# Altium footprint library AMP Footprints.PcbLib: 903 footprints (part 17 of 58)
Each footprint in its own frame and in the unit in brackets; x right, y up, seen from the top. Pads: shape width x height; smd on the part's side, far side on the other; paste and mask are expansions set on the pad; w line width, h text height; cw(c..) or ccw(c..) is an arc to the next point about the centre after c.
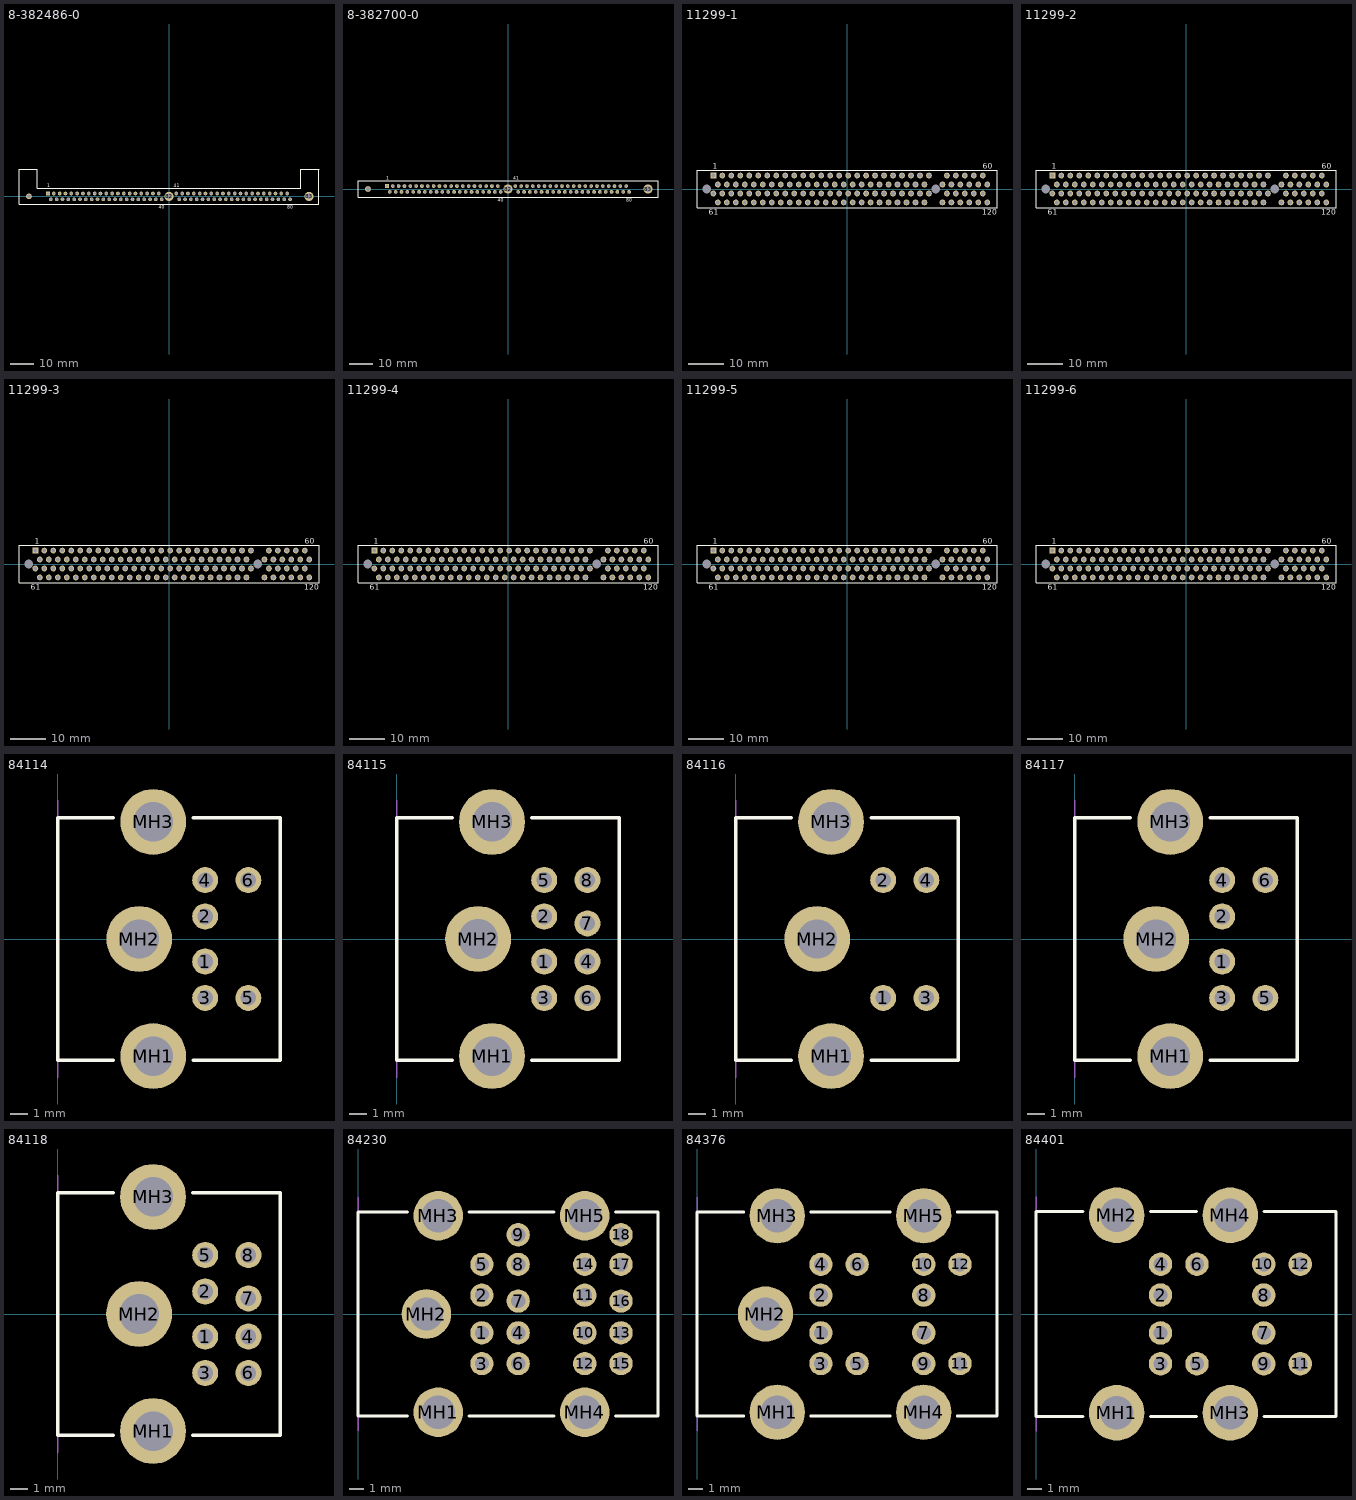
[diagram p16: the footprints below, top view; thin cyan lines are the x and y axes]

## 8-382486-0 [mm] "Connector; SIMM II; 80 Position; Right Angle"
height 11.56
pads (83):
  rect 1.6x1.6 hole 0.99: 1(-52.705,1.27)
  round 1.6 hole 0.99: 2(-51.435,-1.27) 3(-50.165,1.27) 4(-48.895,-1.27) 5(-47.625,1.27) 6(-46.355,-1.27) 7(-45.085,1.27) 8(-43.815,-1.27) 9(-42.545,1.27) 10(-41.275,-1.27) 11(-40.005,1.27) 12(-38.735,-1.27) 13(-37.465,1.27) 14(-36.195,-1.27) 15(-34.925,1.27) 16(-33.655,-1.27) 17(-32.385,1.27) 18(-31.115,-1.27) 19(-29.845,1.27) 20(-28.575,-1.27) 21(-27.305,1.27) 22(-26.035,-1.27) 23(-24.765,1.27) 24(-23.495,-1.27) 25(-22.225,1.27) 26(-20.955,-1.27) 27(-19.685,1.27) 28(-18.415,-1.27) 29(-17.145,1.27) 30(-15.875,-1.27) 31(-14.605,1.27) 32(-13.335,-1.27) 33(-12.065,1.27) 34(-10.795,-1.27) 35(-9.525,1.27) 36(-8.255,-1.27) 37(-6.985,1.27) 38(-5.715,-1.27) 39(-4.445,1.27) 40(-3.175,-1.27) 41(3.175,1.27) 42(4.445,-1.27) 43(5.715,1.27) 44(6.985,-1.27) 45(8.255,1.27) 46(9.525,-1.27) 47(10.795,1.27) 48(12.065,-1.27) 49(13.335,1.27) 50(14.605,-1.27) 51(15.875,1.27) 52(17.145,-1.27) 53(18.415,1.27) 54(19.685,-1.27) 55(20.955,1.27) 56(22.225,-1.27) 57(23.495,1.27) 58(24.765,-1.27) 59(26.035,1.27) 60(27.305,-1.27) 61(28.575,1.27) 62(29.845,-1.27) 63(31.115,1.27) 64(32.385,-1.27) 65(33.655,1.27) 66(34.925,-1.27) 67(36.195,1.27) 68(37.465,-1.27) 69(38.735,1.27) 70(40.005,-1.27) 71(41.275,1.27) 72(42.545,-1.27) 73(43.815,1.27) 74(45.085,-1.27) 75(46.355,1.27) 76(47.625,-1.27) 77(48.895,1.27) 78(50.165,-1.27) 79(51.435,1.27) 80(52.705,-1.27)
  round 2.48 hole 1.58: 81(-60.96,0)
  round 3.94 hole 2.44: 82(0,0) 83(60.96,0)
Top Overlay:
  lines w0.2: 57.265,3.5 -57.275,3.5 -57.275,11.92 -65.305,11.92 -65.305,-3.5 65.295,-3.5 65.295,11.92 ; 57.265,3.53 57.265,11.92 65.305,11.92
  text "1" at -52.955,3.975 h1.5
  text "40" at -4.425,-5.475 h1.5
  text "41" at 2.175,3.975 h1.5
  text "80" at 51.455,-5.475 h1.5

## 8-382700-0 [mm] "Connector; SIMM II; 80 Position; Vertical"
height 18.9
pads (83):
  rect 1.6x1.6 hole 0.99: 1(-52.705,1.27)
  round 1.6 hole 0.99: 2(-51.435,-1.27) 3(-50.165,1.27) 4(-48.895,-1.27) 5(-47.625,1.27) 6(-46.355,-1.27) 7(-45.085,1.27) 8(-43.815,-1.27) 9(-42.545,1.27) 10(-41.275,-1.27) 11(-40.005,1.27) 12(-38.735,-1.27) 13(-37.465,1.27) 14(-36.195,-1.27) 15(-34.925,1.27) 16(-33.655,-1.27) 17(-32.385,1.27) 18(-31.115,-1.27) 19(-29.845,1.27) 20(-28.575,-1.27) 21(-27.305,1.27) 22(-26.035,-1.27) 23(-24.765,1.27) 24(-23.495,-1.27) 25(-22.225,1.27) 26(-20.955,-1.27) 27(-19.685,1.27) 28(-18.415,-1.27) 29(-17.145,1.27) 30(-15.875,-1.27) 31(-14.605,1.27) 32(-13.335,-1.27) 33(-12.065,1.27) 34(-10.795,-1.27) 35(-9.525,1.27) 36(-8.255,-1.27) 37(-6.985,1.27) 38(-5.715,-1.27) 39(-4.445,1.27) 40(-3.175,-1.27) 41(3.175,1.27) 42(4.445,-1.27) 43(5.715,1.27) 44(6.985,-1.27) 45(8.255,1.27) 46(9.525,-1.27) 47(10.795,1.27) 48(12.065,-1.27) 49(13.335,1.27) 50(14.605,-1.27) 51(15.875,1.27) 52(17.145,-1.27) 53(18.415,1.27) 54(19.685,-1.27) 55(20.955,1.27) 56(22.225,-1.27) 57(23.495,1.27) 58(24.765,-1.27) 59(26.035,1.27) 60(27.305,-1.27) 61(28.575,1.27) 62(29.845,-1.27) 63(31.115,1.27) 64(32.385,-1.27) 65(33.655,1.27) 66(34.925,-1.27) 67(36.195,1.27) 68(37.465,-1.27) 69(38.735,1.27) 70(40.005,-1.27) 71(41.275,1.27) 72(42.545,-1.27) 73(43.815,1.27) 74(45.085,-1.27) 75(46.355,1.27) 76(47.625,-1.27) 77(48.895,1.27) 78(50.165,-1.27) 79(51.435,1.27) 80(52.705,-1.27)
  round 2.47 hole 1.57: 81(-60.96,0)
  round 3.94 hole 2.44: 82(0,0) 83(60.96,0)
Top Overlay:
  lines w0.2: -65.305,-3.5 65.295,-3.5 65.295,3.5 -65.305,3.5 -65.305,-3.5
  text "80" at 51.455,-5.475 h1.5
  text "41" at 2.175,3.975 h1.5
  text "40" at -4.425,-5.475 h1.5
  text "1" at -52.955,3.975 h1.5

## 11299-1 [mm] "Connector; Card Edge .050 Series PCI; 2x60 Position; 32-Bit Bus"
height 15.48
pads (122):
  rect 1.62x1.62 hole 1.02: 1(-37.782,3.81)
  round 1.62 hole 1.02: 2(-36.512,1.27) 3(-35.242,3.81) 4(-33.972,1.27) 5(-32.703,3.81) 6(-31.432,1.27) 7(-30.162,3.81) 8(-28.892,1.27) 9(-27.622,3.81) 10(-26.352,1.27) 11(-25.082,3.81) 12(-23.812,1.27) 13(-22.543,3.81) 14(-21.273,1.27) 15(-20.002,3.81) 16(-18.732,1.27) 17(-17.462,3.81) 18(-16.192,1.27) 19(-14.922,3.81) 20(-13.652,1.27) 21(-12.383,3.81) 22(-11.112,1.27) 23(-9.842,3.81) 24(-8.572,1.27) 25(-7.302,3.81) 26(-6.032,1.27) 27(-4.763,3.81) 28(-3.492,1.27) 29(-2.222,3.81) 30(-0.953,1.27) 31(0.318,3.81) 32(1.587,1.27) 33(2.857,3.81) 34(4.127,1.27) 35(5.397,3.81) 36(6.667,1.27) 37(7.938,3.81) 38(9.207,1.27) 39(10.477,3.81) 40(11.747,1.27) 41(13.018,3.81) 42(14.287,1.27) 43(15.557,3.81) 44(16.828,1.27) 45(18.098,3.81) 46(19.367,1.27) 47(20.637,3.81) 48(21.907,1.27) 49(23.177,3.81) 50(26.987,1.27) 51(28.258,3.81) 52(29.527,1.27) 53(30.797,3.81) 54(32.067,1.27) 55(33.337,3.81) 56(34.608,1.27) 57(35.877,3.81) 58(37.148,1.27) 59(38.417,3.81) 60(39.688,1.27) 61(-37.782,-1.27) 62(-36.512,-3.81) 63(-35.242,-1.27) 64(-33.972,-3.81) 65(-32.703,-1.27) 66(-31.432,-3.81) 67(-30.162,-1.27) 68(-28.892,-3.81) 69(-27.622,-1.27) 70(-26.352,-3.81) 71(-25.082,-1.27) 72(-23.812,-3.81) 73(-22.543,-1.27) 74(-21.273,-3.81) 75(-20.002,-1.27) 76(-18.732,-3.81) 77(-17.462,-1.27) 78(-16.192,-3.81) 79(-14.922,-1.27) 80(-13.652,-3.81) 81(-12.383,-1.27) 82(-11.112,-3.81) 83(-9.842,-1.27) 84(-8.572,-3.81) 85(-7.302,-1.27) 86(-6.032,-3.81) 87(-4.763,-1.27) 88(-3.492,-3.81) 89(-2.222,-1.27) 90(-0.953,-3.81) 91(0.318,-1.27) 92(1.587,-3.81) 93(2.857,-1.27) 94(4.127,-3.81) 95(5.397,-1.27) 96(6.667,-3.81) 97(7.938,-1.27) 98(9.207,-3.81) 99(10.477,-1.27) 100(11.747,-3.81) 101(13.018,-1.27) 102(14.287,-3.81) 103(15.557,-1.27) 104(16.828,-3.81) 105(18.098,-1.27) 106(19.367,-3.81) 107(20.637,-1.27) 108(21.907,-3.81) 109(23.177,-1.27) 110(26.987,-3.81) 111(28.258,-1.27) 112(29.527,-3.81) 113(30.797,-1.27) 114(32.067,-3.81) 115(33.337,-1.27) 116(34.608,-3.81) 117(35.877,-1.27) 118(37.148,-3.81) 119(38.417,-1.27) 120(39.688,-3.81)
  round 2.14 hole 2.44: 121(-39.688,0) 122(25.082,0)
Top Overlay:
  lines w0.2: -42.42,-5.26 -42.42,5.26 42.42,5.26 42.42,-5.26 -42.42,-5.26
  text "61" at -39.033,-7.235 h1.5
  text "1" at -38.032,5.735 h1.5
  text "60" at 38.437,5.735 h1.5
  text "120" at 38.188,-7.235 h1.5

## 11299-2 [mm] "Connector; Card Edge .050 Series PCI; 2x60 Position; 32-Bit Bus"
height 15.48
pads (122):
  rect 1.62x1.62 hole 1.02: 1(-37.782,3.81)
  round 1.62 hole 1.02: 2(-36.512,1.27) 3(-35.242,3.81) 4(-33.972,1.27) 5(-32.703,3.81) 6(-31.432,1.27) 7(-30.162,3.81) 8(-28.892,1.27) 9(-27.622,3.81) 10(-26.352,1.27) 11(-25.082,3.81) 12(-23.812,1.27) 13(-22.543,3.81) 14(-21.273,1.27) 15(-20.002,3.81) 16(-18.732,1.27) 17(-17.462,3.81) 18(-16.192,1.27) 19(-14.922,3.81) 20(-13.652,1.27) 21(-12.383,3.81) 22(-11.112,1.27) 23(-9.842,3.81) 24(-8.572,1.27) 25(-7.302,3.81) 26(-6.032,1.27) 27(-4.763,3.81) 28(-3.492,1.27) 29(-2.222,3.81) 30(-0.953,1.27) 31(0.318,3.81) 32(1.587,1.27) 33(2.857,3.81) 34(4.127,1.27) 35(5.397,3.81) 36(6.667,1.27) 37(7.938,3.81) 38(9.207,1.27) 39(10.477,3.81) 40(11.747,1.27) 41(13.018,3.81) 42(14.287,1.27) 43(15.557,3.81) 44(16.828,1.27) 45(18.098,3.81) 46(19.367,1.27) 47(20.637,3.81) 48(21.907,1.27) 49(23.177,3.81) 50(26.987,1.27) 51(28.258,3.81) 52(29.527,1.27) 53(30.797,3.81) 54(32.067,1.27) 55(33.337,3.81) 56(34.608,1.27) 57(35.877,3.81) 58(37.148,1.27) 59(38.417,3.81) 60(39.688,1.27) 61(-37.782,-1.27) 62(-36.512,-3.81) 63(-35.242,-1.27) 64(-33.972,-3.81) 65(-32.703,-1.27) 66(-31.432,-3.81) 67(-30.162,-1.27) 68(-28.892,-3.81) 69(-27.622,-1.27) 70(-26.352,-3.81) 71(-25.082,-1.27) 72(-23.812,-3.81) 73(-22.543,-1.27) 74(-21.273,-3.81) 75(-20.002,-1.27) 76(-18.732,-3.81) 77(-17.462,-1.27) 78(-16.192,-3.81) 79(-14.922,-1.27) 80(-13.652,-3.81) 81(-12.383,-1.27) 82(-11.112,-3.81) 83(-9.842,-1.27) 84(-8.572,-3.81) 85(-7.302,-1.27) 86(-6.032,-3.81) 87(-4.763,-1.27) 88(-3.492,-3.81) 89(-2.222,-1.27) 90(-0.953,-3.81) 91(0.318,-1.27) 92(1.587,-3.81) 93(2.857,-1.27) 94(4.127,-3.81) 95(5.397,-1.27) 96(6.667,-3.81) 97(7.938,-1.27) 98(9.207,-3.81) 99(10.477,-1.27) 100(11.747,-3.81) 101(13.018,-1.27) 102(14.287,-3.81) 103(15.557,-1.27) 104(16.828,-3.81) 105(18.098,-1.27) 106(19.367,-3.81) 107(20.637,-1.27) 108(21.907,-3.81) 109(23.177,-1.27) 110(26.987,-3.81) 111(28.258,-1.27) 112(29.527,-3.81) 113(30.797,-1.27) 114(32.067,-3.81) 115(33.337,-1.27) 116(34.608,-3.81) 117(35.877,-1.27) 118(37.148,-3.81) 119(38.417,-1.27) 120(39.688,-3.81)
  round 2.14 hole 2.44: 121(-39.688,0) 122(25.082,0)
Top Overlay:
  lines w0.2: -42.42,-5.26 -42.42,5.26 42.42,5.26 42.42,-5.26 -42.42,-5.26
  text "61" at -39.033,-7.235 h1.5
  text "1" at -38.032,5.735 h1.5
  text "60" at 38.437,5.735 h1.5
  text "120" at 38.188,-7.235 h1.5

## 11299-3 [mm] "Connector; Card Edge .050 Series PCI; 2x60 Position; 32-Bit Bus"
height 15.48
pads (122):
  rect 1.62x1.62 hole 1.02: 1(-37.782,3.81)
  round 1.62 hole 1.02: 2(-36.512,1.27) 3(-35.242,3.81) 4(-33.972,1.27) 5(-32.703,3.81) 6(-31.432,1.27) 7(-30.162,3.81) 8(-28.892,1.27) 9(-27.622,3.81) 10(-26.352,1.27) 11(-25.082,3.81) 12(-23.812,1.27) 13(-22.543,3.81) 14(-21.273,1.27) 15(-20.002,3.81) 16(-18.732,1.27) 17(-17.462,3.81) 18(-16.192,1.27) 19(-14.922,3.81) 20(-13.652,1.27) 21(-12.383,3.81) 22(-11.112,1.27) 23(-9.842,3.81) 24(-8.572,1.27) 25(-7.302,3.81) 26(-6.032,1.27) 27(-4.763,3.81) 28(-3.492,1.27) 29(-2.222,3.81) 30(-0.953,1.27) 31(0.318,3.81) 32(1.587,1.27) 33(2.857,3.81) 34(4.127,1.27) 35(5.397,3.81) 36(6.667,1.27) 37(7.938,3.81) 38(9.207,1.27) 39(10.477,3.81) 40(11.747,1.27) 41(13.018,3.81) 42(14.287,1.27) 43(15.557,3.81) 44(16.828,1.27) 45(18.098,3.81) 46(19.367,1.27) 47(20.637,3.81) 48(21.907,1.27) 49(23.177,3.81) 50(26.987,1.27) 51(28.258,3.81) 52(29.527,1.27) 53(30.797,3.81) 54(32.067,1.27) 55(33.337,3.81) 56(34.608,1.27) 57(35.877,3.81) 58(37.148,1.27) 59(38.417,3.81) 60(39.688,1.27) 61(-37.782,-1.27) 62(-36.512,-3.81) 63(-35.242,-1.27) 64(-33.972,-3.81) 65(-32.703,-1.27) 66(-31.432,-3.81) 67(-30.162,-1.27) 68(-28.892,-3.81) 69(-27.622,-1.27) 70(-26.352,-3.81) 71(-25.082,-1.27) 72(-23.812,-3.81) 73(-22.543,-1.27) 74(-21.273,-3.81) 75(-20.002,-1.27) 76(-18.732,-3.81) 77(-17.462,-1.27) 78(-16.192,-3.81) 79(-14.922,-1.27) 80(-13.652,-3.81) 81(-12.383,-1.27) 82(-11.112,-3.81) 83(-9.842,-1.27) 84(-8.572,-3.81) 85(-7.302,-1.27) 86(-6.032,-3.81) 87(-4.763,-1.27) 88(-3.492,-3.81) 89(-2.222,-1.27) 90(-0.953,-3.81) 91(0.318,-1.27) 92(1.587,-3.81) 93(2.857,-1.27) 94(4.127,-3.81) 95(5.397,-1.27) 96(6.667,-3.81) 97(7.938,-1.27) 98(9.207,-3.81) 99(10.477,-1.27) 100(11.747,-3.81) 101(13.018,-1.27) 102(14.287,-3.81) 103(15.557,-1.27) 104(16.828,-3.81) 105(18.098,-1.27) 106(19.367,-3.81) 107(20.637,-1.27) 108(21.907,-3.81) 109(23.177,-1.27) 110(26.987,-3.81) 111(28.258,-1.27) 112(29.527,-3.81) 113(30.797,-1.27) 114(32.067,-3.81) 115(33.337,-1.27) 116(34.608,-3.81) 117(35.877,-1.27) 118(37.148,-3.81) 119(38.417,-1.27) 120(39.688,-3.81)
  round 2.14 hole 2.44: 121(-39.688,0) 122(25.082,0)
Top Overlay:
  lines w0.2: -42.42,-5.26 -42.42,5.26 42.42,5.26 42.42,-5.26 -42.42,-5.26
  text "61" at -39.033,-7.235 h1.5
  text "1" at -38.032,5.735 h1.5
  text "60" at 38.437,5.735 h1.5
  text "120" at 38.188,-7.235 h1.5

## 11299-4 [mm] "Connector; Card Edge .050 Series PCI; 2x60 Position; 32-Bit Bus"
height 15.48
pads (122):
  rect 1.62x1.62 hole 1.02: 1(-37.782,3.81)
  round 1.62 hole 1.02: 2(-36.512,1.27) 3(-35.242,3.81) 4(-33.972,1.27) 5(-32.703,3.81) 6(-31.432,1.27) 7(-30.162,3.81) 8(-28.892,1.27) 9(-27.622,3.81) 10(-26.352,1.27) 11(-25.082,3.81) 12(-23.812,1.27) 13(-22.543,3.81) 14(-21.273,1.27) 15(-20.002,3.81) 16(-18.732,1.27) 17(-17.462,3.81) 18(-16.192,1.27) 19(-14.922,3.81) 20(-13.652,1.27) 21(-12.383,3.81) 22(-11.112,1.27) 23(-9.842,3.81) 24(-8.572,1.27) 25(-7.302,3.81) 26(-6.032,1.27) 27(-4.763,3.81) 28(-3.492,1.27) 29(-2.222,3.81) 30(-0.953,1.27) 31(0.318,3.81) 32(1.587,1.27) 33(2.857,3.81) 34(4.127,1.27) 35(5.397,3.81) 36(6.667,1.27) 37(7.938,3.81) 38(9.207,1.27) 39(10.477,3.81) 40(11.747,1.27) 41(13.018,3.81) 42(14.287,1.27) 43(15.557,3.81) 44(16.828,1.27) 45(18.098,3.81) 46(19.367,1.27) 47(20.637,3.81) 48(21.907,1.27) 49(23.177,3.81) 50(26.987,1.27) 51(28.258,3.81) 52(29.527,1.27) 53(30.797,3.81) 54(32.067,1.27) 55(33.337,3.81) 56(34.608,1.27) 57(35.877,3.81) 58(37.148,1.27) 59(38.417,3.81) 60(39.688,1.27) 61(-37.782,-1.27) 62(-36.512,-3.81) 63(-35.242,-1.27) 64(-33.972,-3.81) 65(-32.703,-1.27) 66(-31.432,-3.81) 67(-30.162,-1.27) 68(-28.892,-3.81) 69(-27.622,-1.27) 70(-26.352,-3.81) 71(-25.082,-1.27) 72(-23.812,-3.81) 73(-22.543,-1.27) 74(-21.273,-3.81) 75(-20.002,-1.27) 76(-18.732,-3.81) 77(-17.462,-1.27) 78(-16.192,-3.81) 79(-14.922,-1.27) 80(-13.652,-3.81) 81(-12.383,-1.27) 82(-11.112,-3.81) 83(-9.842,-1.27) 84(-8.572,-3.81) 85(-7.302,-1.27) 86(-6.032,-3.81) 87(-4.763,-1.27) 88(-3.492,-3.81) 89(-2.222,-1.27) 90(-0.953,-3.81) 91(0.318,-1.27) 92(1.587,-3.81) 93(2.857,-1.27) 94(4.127,-3.81) 95(5.397,-1.27) 96(6.667,-3.81) 97(7.938,-1.27) 98(9.207,-3.81) 99(10.477,-1.27) 100(11.747,-3.81) 101(13.018,-1.27) 102(14.287,-3.81) 103(15.557,-1.27) 104(16.828,-3.81) 105(18.098,-1.27) 106(19.367,-3.81) 107(20.637,-1.27) 108(21.907,-3.81) 109(23.177,-1.27) 110(26.987,-3.81) 111(28.258,-1.27) 112(29.527,-3.81) 113(30.797,-1.27) 114(32.067,-3.81) 115(33.337,-1.27) 116(34.608,-3.81) 117(35.877,-1.27) 118(37.148,-3.81) 119(38.417,-1.27) 120(39.688,-3.81)
  round 2.14 hole 2.44: 121(-39.688,0) 122(25.082,0)
Top Overlay:
  lines w0.2: -42.42,-5.26 -42.42,5.26 42.42,5.26 42.42,-5.26 -42.42,-5.26
  text "61" at -39.033,-7.235 h1.5
  text "1" at -38.032,5.735 h1.5
  text "60" at 38.437,5.735 h1.5
  text "120" at 38.188,-7.235 h1.5

## 11299-5 [mm] "Connector; Card Edge .050 Series PCI; 2x60 Position; 32-Bit Bus"
height 15.48
pads (122):
  rect 1.62x1.62 hole 1.02: 1(-37.782,3.81)
  round 1.62 hole 1.02: 2(-36.512,1.27) 3(-35.242,3.81) 4(-33.972,1.27) 5(-32.703,3.81) 6(-31.432,1.27) 7(-30.162,3.81) 8(-28.892,1.27) 9(-27.622,3.81) 10(-26.352,1.27) 11(-25.082,3.81) 12(-23.812,1.27) 13(-22.543,3.81) 14(-21.273,1.27) 15(-20.002,3.81) 16(-18.732,1.27) 17(-17.462,3.81) 18(-16.192,1.27) 19(-14.922,3.81) 20(-13.652,1.27) 21(-12.383,3.81) 22(-11.112,1.27) 23(-9.842,3.81) 24(-8.572,1.27) 25(-7.302,3.81) 26(-6.032,1.27) 27(-4.763,3.81) 28(-3.492,1.27) 29(-2.222,3.81) 30(-0.953,1.27) 31(0.318,3.81) 32(1.587,1.27) 33(2.857,3.81) 34(4.127,1.27) 35(5.397,3.81) 36(6.667,1.27) 37(7.938,3.81) 38(9.207,1.27) 39(10.477,3.81) 40(11.747,1.27) 41(13.018,3.81) 42(14.287,1.27) 43(15.557,3.81) 44(16.828,1.27) 45(18.098,3.81) 46(19.367,1.27) 47(20.637,3.81) 48(21.907,1.27) 49(23.177,3.81) 50(26.987,1.27) 51(28.258,3.81) 52(29.527,1.27) 53(30.797,3.81) 54(32.067,1.27) 55(33.337,3.81) 56(34.608,1.27) 57(35.877,3.81) 58(37.148,1.27) 59(38.417,3.81) 60(39.688,1.27) 61(-37.782,-1.27) 62(-36.512,-3.81) 63(-35.242,-1.27) 64(-33.972,-3.81) 65(-32.703,-1.27) 66(-31.432,-3.81) 67(-30.162,-1.27) 68(-28.892,-3.81) 69(-27.622,-1.27) 70(-26.352,-3.81) 71(-25.082,-1.27) 72(-23.812,-3.81) 73(-22.543,-1.27) 74(-21.273,-3.81) 75(-20.002,-1.27) 76(-18.732,-3.81) 77(-17.462,-1.27) 78(-16.192,-3.81) 79(-14.922,-1.27) 80(-13.652,-3.81) 81(-12.383,-1.27) 82(-11.112,-3.81) 83(-9.842,-1.27) 84(-8.572,-3.81) 85(-7.302,-1.27) 86(-6.032,-3.81) 87(-4.763,-1.27) 88(-3.492,-3.81) 89(-2.222,-1.27) 90(-0.953,-3.81) 91(0.318,-1.27) 92(1.587,-3.81) 93(2.857,-1.27) 94(4.127,-3.81) 95(5.397,-1.27) 96(6.667,-3.81) 97(7.938,-1.27) 98(9.207,-3.81) 99(10.477,-1.27) 100(11.747,-3.81) 101(13.018,-1.27) 102(14.287,-3.81) 103(15.557,-1.27) 104(16.828,-3.81) 105(18.098,-1.27) 106(19.367,-3.81) 107(20.637,-1.27) 108(21.907,-3.81) 109(23.177,-1.27) 110(26.987,-3.81) 111(28.258,-1.27) 112(29.527,-3.81) 113(30.797,-1.27) 114(32.067,-3.81) 115(33.337,-1.27) 116(34.608,-3.81) 117(35.877,-1.27) 118(37.148,-3.81) 119(38.417,-1.27) 120(39.688,-3.81)
  round 2.14 hole 2.44: 121(-39.688,0) 122(25.082,0)
Top Overlay:
  lines w0.2: -42.42,-5.26 -42.42,5.26 42.42,5.26 42.42,-5.26 -42.42,-5.26
  text "61" at -39.033,-7.235 h1.5
  text "1" at -38.032,5.735 h1.5
  text "60" at 38.437,5.735 h1.5
  text "120" at 38.188,-7.235 h1.5

## 11299-6 [mm] "Connector; Card Edge .050 Series PCI; 2x60 Position; 32-Bit Bus"
height 15.48
pads (122):
  rect 1.62x1.62 hole 1.02: 1(-37.782,3.81)
  round 1.62 hole 1.02: 2(-36.512,1.27) 3(-35.242,3.81) 4(-33.972,1.27) 5(-32.703,3.81) 6(-31.432,1.27) 7(-30.162,3.81) 8(-28.892,1.27) 9(-27.622,3.81) 10(-26.352,1.27) 11(-25.082,3.81) 12(-23.812,1.27) 13(-22.543,3.81) 14(-21.273,1.27) 15(-20.002,3.81) 16(-18.732,1.27) 17(-17.462,3.81) 18(-16.192,1.27) 19(-14.922,3.81) 20(-13.652,1.27) 21(-12.383,3.81) 22(-11.112,1.27) 23(-9.842,3.81) 24(-8.572,1.27) 25(-7.302,3.81) 26(-6.032,1.27) 27(-4.763,3.81) 28(-3.492,1.27) 29(-2.222,3.81) 30(-0.953,1.27) 31(0.318,3.81) 32(1.587,1.27) 33(2.857,3.81) 34(4.127,1.27) 35(5.397,3.81) 36(6.667,1.27) 37(7.938,3.81) 38(9.207,1.27) 39(10.477,3.81) 40(11.747,1.27) 41(13.018,3.81) 42(14.287,1.27) 43(15.557,3.81) 44(16.828,1.27) 45(18.098,3.81) 46(19.367,1.27) 47(20.637,3.81) 48(21.907,1.27) 49(23.177,3.81) 50(26.987,1.27) 51(28.258,3.81) 52(29.527,1.27) 53(30.797,3.81) 54(32.067,1.27) 55(33.337,3.81) 56(34.608,1.27) 57(35.877,3.81) 58(37.148,1.27) 59(38.417,3.81) 60(39.688,1.27) 61(-37.782,-1.27) 62(-36.512,-3.81) 63(-35.242,-1.27) 64(-33.972,-3.81) 65(-32.703,-1.27) 66(-31.432,-3.81) 67(-30.162,-1.27) 68(-28.892,-3.81) 69(-27.622,-1.27) 70(-26.352,-3.81) 71(-25.082,-1.27) 72(-23.812,-3.81) 73(-22.543,-1.27) 74(-21.273,-3.81) 75(-20.002,-1.27) 76(-18.732,-3.81) 77(-17.462,-1.27) 78(-16.192,-3.81) 79(-14.922,-1.27) 80(-13.652,-3.81) 81(-12.383,-1.27) 82(-11.112,-3.81) 83(-9.842,-1.27) 84(-8.572,-3.81) 85(-7.302,-1.27) 86(-6.032,-3.81) 87(-4.763,-1.27) 88(-3.492,-3.81) 89(-2.222,-1.27) 90(-0.953,-3.81) 91(0.318,-1.27) 92(1.587,-3.81) 93(2.857,-1.27) 94(4.127,-3.81) 95(5.397,-1.27) 96(6.667,-3.81) 97(7.938,-1.27) 98(9.207,-3.81) 99(10.477,-1.27) 100(11.747,-3.81) 101(13.018,-1.27) 102(14.287,-3.81) 103(15.557,-1.27) 104(16.828,-3.81) 105(18.098,-1.27) 106(19.367,-3.81) 107(20.637,-1.27) 108(21.907,-3.81) 109(23.177,-1.27) 110(26.987,-3.81) 111(28.258,-1.27) 112(29.527,-3.81) 113(30.797,-1.27) 114(32.067,-3.81) 115(33.337,-1.27) 116(34.608,-3.81) 117(35.877,-1.27) 118(37.148,-3.81) 119(38.417,-1.27) 120(39.688,-3.81)
  round 2.14 hole 2.44: 121(-39.688,0) 122(25.082,0)
Top Overlay:
  lines w0.2: -42.42,-5.26 -42.42,5.26 42.42,5.26 42.42,-5.26 -42.42,-5.26
  text "61" at -39.033,-7.235 h1.5
  text "1" at -38.032,5.735 h1.5
  text "60" at 38.437,5.735 h1.5
  text "120" at 38.188,-7.235 h1.5

## 84114 [mm] "Connector; Circular DIN, Thru-Hole; 6 Position; Right Angle; Pitch 2.1/2.6 mm; Body 14 x 12.84 x 13 mm (WxTxH), Shielded"
height 13
pads (9):
  round 1.5 hole 0.9: 1(8.51,-1.3) 2(8.51,1.3) 3(8.51,-3.4) 4(8.51,3.4) 5(11,-3.4) 6(11,3.4)
  round 3.8 hole 2.28: MH1(5.51,-6.76) MH2(4.7,0) MH3(5.51,6.76)
Top Overlay:
  lines w0.2: 3.21,-7 0,-7 0,7 3.21,7 ; 7.81,-7 12.84,-7 12.84,7 7.81,7
Mechanical 1:
  lines w0.1: 0,-8 0,8
  text "PCB Edge" at 0.6,-6.6 h0.25

## 84115 [mm] "Connector; Circular DIN, Thru-Hole; 8 Position; Right Angle; Pitch 2.1/2.6 mm; Body 14 x 12.84 x 13 mm (WxTxH), Shielded"
height 13
pads (11):
  round 1.5 hole 0.9: 1(8.51,-1.3) 2(8.51,1.3) 3(8.51,-3.4) 4(11,-1.3) 5(8.51,3.4) 6(11,-3.4) 7(11,0.9) 8(11,3.4)
  round 3.8 hole 2.28: MH1(5.5,-6.75) MH2(4.7,0) MH3(5.5,6.75)
Top Overlay:
  lines w0.2: 3.2,-7 0,-7 0,7 3.2,7 ; 7.8,-6.99 12.84,-7 12.84,7 7.8,7
Mechanical 1:
  lines w0.1: 0,-8 0,8
  text "PCB Edge" at 0.6,-6.6 h0.25

## 84116 [mm] "Connector; Circular DIN, Thru-Hole; 4 Position; Right Angle; Pitch 2.1/2.6 mm; Body 14 x 12.84 x 13 mm (WxTxH), Shielded, Special PCB Retention"
height 13
pads (7):
  round 1.5 hole 0.9: 1(8.51,-3.4) 2(8.51,3.4) 3(11,-3.4) 4(11,3.4)
  round 3.8 hole 2.28: MH1(5.5,-6.76) MH2(4.7,0) MH3(5.5,6.76)
Top Overlay:
  lines w0.2: 3.21,-7 0,-7 0,7 3.21,7 ; 7.81,-7 12.84,-7 12.84,7 7.81,7
Mechanical 1:
  lines w0.1: 0,-8 0,8
  text "PCB Edge" at 0.6,-6.7 h0.25

## 84117 [mm] "Connector; Circular DIN, Thru-Hole; 6 Position; Right Angle; Pitch 2.1/2.6 mm; Body 14 x 12.84 x 13 mm (WxTxH), Shielded, Special PCB Retention"
height 13
pads (9):
  round 1.5 hole 0.9: 1(8.51,-1.3) 2(8.51,1.3) 3(8.51,-3.4) 4(8.51,3.4) 5(11,-3.4) 6(11,3.4)
  round 3.8 hole 2.28: MH1(5.51,-6.76) MH2(4.7,0) MH3(5.51,6.76)
Top Overlay:
  lines w0.2: 3.21,-7 0,-7 0,7 3.21,7 ; 7.81,-7 12.84,-7 12.84,7 7.81,7
Mechanical 1:
  lines w0.1: 0,-8 0,8
  text "PCB Edge" at 0.6,-6.6 h0.25

## 84118 [mm] "Connector; Circular DIN, Thru-Hole; 8 Position; Right Angle; Pitch 2.1/2.6 mm; Body 14 x 12.84 x 13 mm (WxTxH), Shielded, Special PCB Retention"
height 13
pads (11):
  round 1.5 hole 0.9: 1(8.51,-1.3) 2(8.51,1.3) 3(8.51,-3.4) 4(11,-1.3) 5(8.51,3.4) 6(11,-3.4) 7(11,0.9) 8(11,3.4)
  round 3.8 hole 2.28: MH1(5.5,-6.75) MH2(4.7,0) MH3(5.5,6.75)
Top Overlay:
  lines w0.2: 3.2,-7 0,-7 0,7 3.2,7 ; 7.8,-6.99 12.84,-7 12.84,7 7.8,7
Mechanical 1:
  lines w0.1: 0,-8 0,8
  text "PCB Edge" at 0.6,-6.6 h0.25

## 84230 [mm] "Connector; Circular DIN, Thru-Hole; 9x9 Position; Right Angle; Pitch 2.11/2.59 mm; Body 14 x 20.6 x 28.62 mm (WxTxH), Shielded"
height 28.62
pads (23):
  round 1.6 hole 0.97: 1(8.51,-1.295) 2(8.51,1.295) 3(8.51,-3.405) 4(11,-1.295) 5(8.51,3.405) 6(11,-3.405) 7(11,0.89) 8(11,3.405) 9(11,5.44) 10(15.57,-1.295) 11(15.57,1.295) 12(15.57,-3.405) 13(18.06,-1.295) 14(15.57,3.405) 15(18.06,-3.405) 16(18.06,0.89) 17(18.06,3.405) 18(18.06,5.44)
  round 3.4 hole 2.29: MH1(5.51,-6.745) MH2(4.7,0) MH3(5.51,6.745) MH4(15.57,-6.745) MH5(15.57,6.745)
Top Overlay:
  lines w0.2: 3.41,-7 0,-7 0,7 3.41,7 ; 7.61,-6.99 13.47,-7 ; 7.61,7 13.47,7 ; 17.67,-7 20.6,-7 20.6,7 17.67,7
Mechanical 1:
  lines w0.1: 0,-8 0,8
  text "PCB Edge" at 0.6,-6.7 h0.25

## 84376 [mm] "Connector; Circular DIN, Thru-Hole; 6x6 Position; Right Angle; Pitch 2.11/2.59 mm; Body 14 x 20.6 x 28.62 mm (WxTxH), Shielded, Special PCB Retention"
height 28.62
pads (17):
  round 1.6 hole 0.97: 1(8.51,-1.295) 2(8.51,1.295) 3(8.51,-3.405) 4(8.51,3.405) 5(11,-3.405) 6(11,3.405) 7(15.57,-1.295) 8(15.57,1.295) 9(15.57,-3.405) 10(15.57,3.405) 11(18.06,-3.405) 12(18.06,3.405)
  round 3.8 hole 2.29: MH1(5.51,-6.75) MH2(4.7,0) MH3(5.51,6.75) MH4(15.57,-6.75) MH5(15.57,6.75)
Top Overlay:
  lines w0.2: 3.21,-7 0,-7 0,7 3.21,7 ; 7.81,-6.99 13.27,-6.99 ; 7.81,7 13.27,7 ; 17.87,-7 20.6,-7 20.6,7 17.87,7
Mechanical 1:
  lines w0.1: 0,-8 0,8
  text "PCB Edge" at 0.6,-6.6 h0.25

## 84401 [mm] "Connector; Circular DIN, Thru-Hole; 6x6 Position; Right Angle; Pitch 2.11/2.59 mm; Body 14 x 20.5 x 28.62 mm (WxTxH), Shielded"
height 28.62
pads (16):
  round 1.6 hole 0.97: 1(8.51,-1.295) 2(8.51,1.295) 3(8.51,-3.405) 4(8.51,3.405) 5(11,-3.405) 6(11,3.405) 7(15.57,-1.295) 8(15.57,1.295) 9(15.57,-3.405) 10(15.57,3.405) 11(18.06,-3.405) 12(18.06,3.405)
  round 3.8 hole 2.29: MH1(5.51,-6.75) MH2(5.51,6.75) MH3(13.28,-6.75) MH4(13.28,6.75)
Top Overlay:
  lines w0.2: 3.21,-7 0,-7 0,7 3.21,7 ; 7.81,-6.99 10.98,-6.99 ; 7.81,7 10.98,7 ; 15.58,-7 20.5,-7 20.5,7 15.58,7
Mechanical 1:
  lines w0.1: 0,-8 0,8
  text "PCB Edge" at 0.6,-6.6 h0.25